# Altium footprint library PCB - CONNECTOR - OST - OST OSTTC030162.PcbLib: 1 footprints
Each footprint in its own frame and in the unit in brackets; x right, y up, seen from the top. Pads: shape width x height; smd on the part's side, far side on the other; paste and mask are expansions set on the pad; w line width, h text height; cw(c..) or ccw(c..) is an arc to the next point about the centre after c.
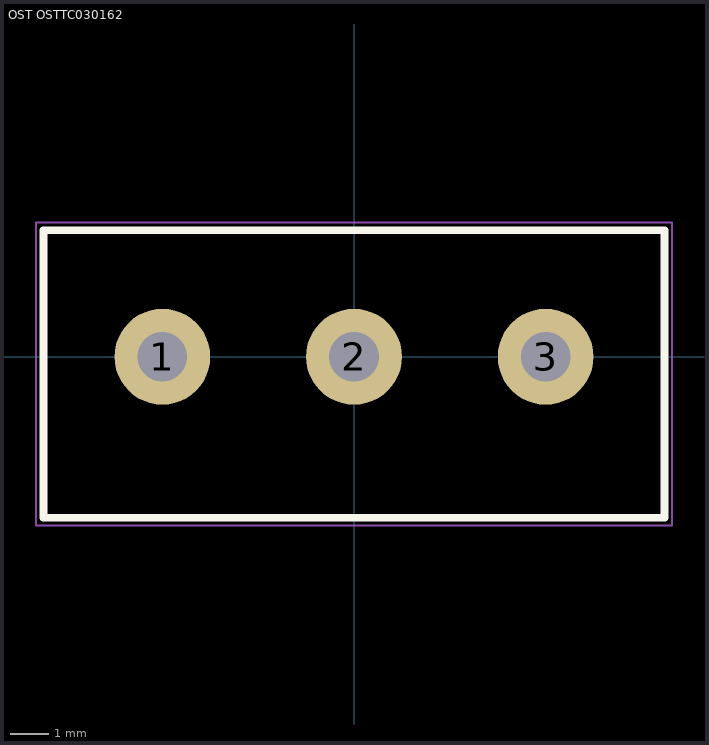
[diagram p0: the footprint, top view; thin cyan lines are the x and y axes]

## OST OSTTC030162 [mm] "Wire to Board Terminal Block Horizontal with Board, 3 Postions, Body 16.2x7.5mm, Pitch 5mm"
height 10.3
pads (3):
  round 2.5 hole 1.3: 1(-5,0) 2(0,0) 3(5,0)
Top Overlay:
  lines w0.2: -8.1,-4.2 -8.1,3.3 8.1,3.3 8.1,-4.2 -8.1,-4.2
Mechanical 13:
  lines w0.1: -8.1,-4.2 -8.1,3.3 8.1,3.3 8.1,-4.2 -8.1,-4.2
Mechanical 15 (Mech15):
  lines w0.05: -8.3,-4.4 -8.3,3.5 8.3,3.5 8.3,-4.4 -8.3,-4.4
  lines w0.1: -0.4,0 0,0 ; 0,-0.4 0,0 ; 0,0.4 0,0 ; 0.4,0 0,0
3D body "OST - OSTTC030162.stp": height 10.3, standoff -3.8, extent -8.1,-4.2 8.1,3.3